# EAGLE library part RES_BUS-10 (library CougsInSpace-Resistors)
Resistor Bussed Array All resistors share a common terminal
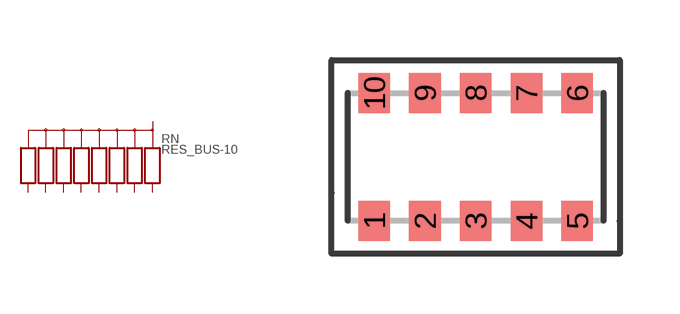
[diagram p2: symbol with the pads of 3264; footprint 3264]

Designator prefix RN

## RES_BUS-10-10K-3264 (PACKAGE: 3264; POWER: 1/16W; SKU: 26-0001; TEMP: 200ppm/°C; VALUE: 10kΩ 5%)  [3264]
1  1  pas
2  2  pas
3  3  pas
4  4  pas
5  C  pas
6  5  pas
7  6  pas
8  7  pas
9  8  pas
10  C  pas

## Footprint 3264 (pad centres in mm)
3264 (1225 in)
smd 0.79 x 1: 1 -2.54,-1.6; 2 -1.27,-1.6; 3 0,-1.6; 4 1.27,-1.6; 5 2.54,-1.6; 6 2.54,1.6; 7 1.27,1.6; 8 0,1.6; 9 -1.27,1.6; 10 -2.54,1.6